# Altium schematic symbol library MyLibrary.SchLib: 261 symbols (part 4 of 4)
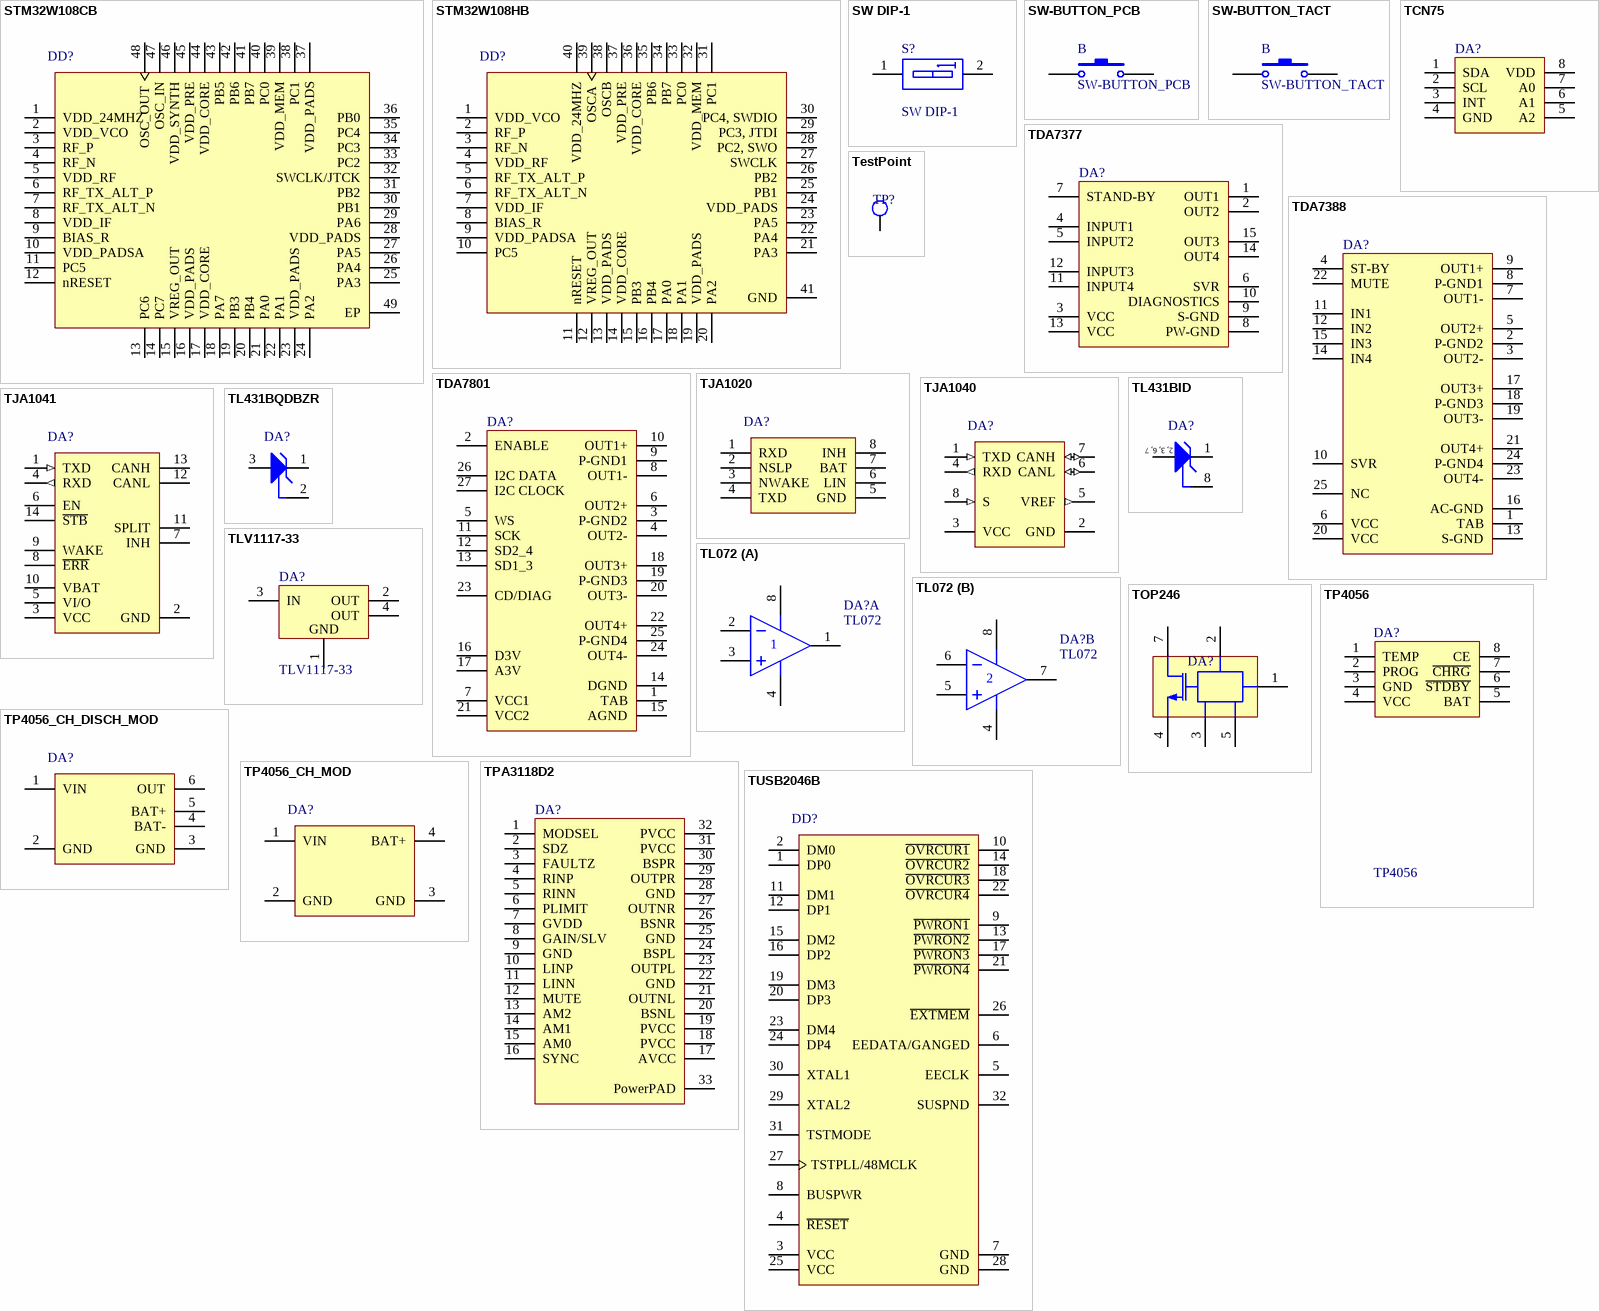
[diagram p12: symbols STM32W108CB to TUSB2046B]

## STM32W108HB
designator DD?
STM32W108HBU61TR
footprint QFPN40_L (QFN, 40-Leads, Body 6.1x6.1mm, Pitch 0.5mm, Thermal Pad 4.6x4.6mm, IPC High Density)
footprint QFPN40_M (QFN, 40-Leads, Body 6.1x6.1mm, Pitch 0.5mm, Thermal Pad 4.6x4.6mm, IPC Low Density)
footprint QFPN40_N (QFN, 40-Leads, Body 6.1x6.1mm, Pitch 0.5mm, Thermal Pad 4.6x4.6mm, IPC Medium Density)
pins: 1 VDD_VCO, 2 RF_P, 3 RF_N, 4 VDD_RF, 5 RF_TX_ALT_P, 6 RF_TX_ALT_N, 7 VDD_IF, 8 BIAS_R, 9 VDD_PADSA, 10 PC5, 11 nRESET, 12 VREG_OUT, 13 VDD_PADS, 14 VDD_CORE, 15 PB3, 16 PB4, 17 PA0, 18 PA1, 19 VDD_PADS, 20 PA2, 21 PA3, 22 PA4, 23 PA5, 24 VDD_PADS, 25 PB1, 26 PB2, 27 SWCLK, 28 PC2, SWO, 29 PC3, JTDI, 30 PC4, SWDIO, 31 PC1, 32 VDD_MEM, 33 PC0, 34 PB7, 35 PB6, 36 VDD_CORE, 37 VDD_PRE, 38 OSCB, 39 OSCA, 40 VDD_24MHZ, 41 GND

## SW DIP-1
designator S?
DIP Switch, 2 Position, SPST; Published: 24-Mar-1999; LatestRevisionDate: 17-Jul-2002; LatestRevisionNote: Re-released for DXP Platform.; PackageReference: DIP-4; Publisher: Altium Limited
simulation model dpsw2 (Spice Subcircuit)
footprint SW DIP2 (Switch; 2 Leads)
pins: 1 A1, 2 A2

## SW-BUTTON_PCB
designator B
PCB Switch, 2 Position; Published: 24-Mar-1999; LatestRevisionDate: 17-Jul-2002; LatestRevisionNote: Re-released for DXP Platform.; PackageReference: SPST-2; Publisher: Altium Limited; PackageDescription: Switch; 2 Leads
footprint SW_BUTTON_PCB (Connector; Header; 4 Position)
pins: 1, 2

## SW-BUTTON_TACT
designator B
DIP Switch, 2 Position; Published: 24-Mar-1999; LatestRevisionDate: 17-Jul-2002; LatestRevisionNote: Re-released for DXP Platform.; PackageReference: SPST-2; Publisher: Altium Limited; PackageDescription: Switch; 2 Leads
footprint SPST-2 SMD (Switch; 2 Leads)
footprint SPST-2 TH (Switch; 2 Leads)
pins: 1, 2

## TCN75
designator DA?
2-WIRE SERIAL TEMPERATURE SENSOR AND THERMAL MONITOR; Published: 15-Apr-2002; LatestRevisionDate: 13-Apr-2006; LatestRevisionNote: IPC-7351 Footprint Added.; DatasheetVersion: Mar-2000; PackageVersion: 1998; PackageReference: 751-05; Publisher: Altium Limited; PackageDescription: 8-Pin Small Outline Integrated Circuit 1.27 mm Pitch; Code_JEDEC: MS-012-AA; Code_IPC: SOIC127P600-8; ComponentLink1Description: Manufacturer Link; ComponentLink1URL: http://www.onsemi.com/site/products/taxonomy/0,4438,503,00.html; ComponentLink2Description: Datasheet; ComponentLink2URL: http://www.onsemi.com/pub/Collateral/MC33275-D.PDF
footprint SOIC-8_N (SOIC, 8-Leads, Body 4.9x3.9mm, Pitch 1.27mm, IPC Medium Density)
pins: 1 SDA (power), 2 SCL (power), 3 INT (power), 4 GND (power), 5 A2 (power), 6 A1, 7 A0, 8 VDD (power)

## TDA7377
designator DA?
2x30W DUAL/QUAD POWER AMPLIFIER FOR CAR RADIO; Published: 24-Aug-2001; LatestRevisionDate: 17-Jul-2002; LatestRevisionNote: Re-released for DXP Platform.; DatasheetVersion: Feb-1999; PackageReference: TO92; Publisher: Altium Limited; PackageDescription: TO, Flat Index; 3 In-Line, Axial Leads; Body Dia. 4.8mm; Leads 0.51 x 0.51 mm (max); ComponentLink1Description: Manufacturer Link; ComponentLink1URL: http://www.st.com/
footprint TDA7388 (DIP; 8 Leads; Row Spacing 7.62 mm; Pitch 2.54 mm)
pins: 1 OUT1, 2 OUT2, 3 VCC, 4 INPUT1, 5 INPUT2, 6 SVR, 7 STAND-BY, 8 PW-GND, 9 S-GND, 10 DIAGNOSTICS, 11 INPUT4, 12 INPUT3, 13 VCC, 14 OUT4, 15 OUT3

## TDA7388
designator DA?
4x45 W quad bridge car radio amplifier; Published: 24-Aug-2001; LatestRevisionDate: 17-Jul-2002; LatestRevisionNote: Re-released for DXP Platform.; DatasheetVersion: Feb-1999; PackageReference: TO92; Publisher: Altium Limited; PackageDescription: TO, Flat Index; 3 In-Line, Axial Leads; Body Dia. 4.8mm; Leads 0.51 x 0.51 mm (max); ComponentLink1Description: Manufacturer Link; ComponentLink1URL: http://www.st.com/
footprint TDA7388 (DIP; 8 Leads; Row Spacing 7.62 mm; Pitch 2.54 mm)
pins: 1 TAB, 2 P-GND2, 3 OUT2-, 4 ST-BY, 5 OUT2+, 6 VCC, 7 OUT1-, 8 P-GND1, 9 OUT1+, 10 SVR, 11 IN1, 12 IN2, 13 S-GND, 14 IN4, 15 IN3, 16 AC-GND, 17 OUT3+, 18 P-GND3, 19 OUT3-, 20 VCC, 21 OUT4+, 22 MUTE, 23 OUT4-, 24 P-GND4, 25 NC

## TDA7801
designator DA?
4x72W Digital input quad power amplifier with built-in diagnostics features; Published: 24-Aug-2001; LatestRevisionDate: 17-Jul-2002; LatestRevisionNote: Re-released for DXP Platform.; DatasheetVersion: Feb-1999; PackageReference: TO92; Publisher: Altium Limited; PackageDescription: TO, Flat Index; 3 In-Line, Axial Leads; Body Dia. 4.8mm; Leads 0.51 x 0.51 mm (max); ComponentLink1Description: Manufacturer Link; ComponentLink1URL: http://www.st.com/
footprint TDA7801 (DIP; 8 Leads; Row Spacing 7.62 mm; Pitch 2.54 mm)
pins: 1 TAB, 2 ENABLE, 3 P-GND2, 4 OUT2-, 5 WS, 6 OUT2+, 7 VCC1, 8 OUT1-, 9 P-GND1, 10 OUT1+, 11 SCK, 12 SD2_4, 13 SD1_3, 14 DGND, 15 AGND, 16 D3V, 17 A3V, 18 OUT3+, 19 P-GND3, 20 OUT3-, 21 VCC2, 22 OUT4+, 23 CD/DIAG, 24 OUT4-, 25 P-GND4, 26 I2C DATA, 27 I2C CLOCK

## TestPoint
designator TP?, comment TP  (value not drawn)
Test Point
footprint TEST_POINT_1MM (Connector; Header; 4 Position)
pins: 1

## TJA1020
designator DA?
LIN transceiver
footprint SOIC-8_L (SOIC, 8-Leads, Body 4.9x3.9mm, Pitch 1.27mm, IPC High Density)
footprint SOIC-8_M (SOIC, 8-Leads, Body 4.9x3.9mm, Pitch 1.27mm, IPC Low Density)
footprint SOIC-8_N (SOIC, 8-Leads, Body 4.9x3.9mm, Pitch 1.27mm, IPC Medium Density)
pins: 1 RXD, 2 NSLP, 3 NWAKE, 4 TXD, 5 GND, 6 LIN, 7 BAT, 8 INH

## TJA1040
designator DA?
CAN high speed transceiver
footprint SOIC-8_L (SOIC, 8-Leads, Body 4.9x3.9mm, Pitch 1.27mm, IPC High Density)
footprint SOIC-8_M (SOIC, 8-Leads, Body 4.9x3.9mm, Pitch 1.27mm, IPC Low Density)
footprint SOIC-8_N (SOIC, 8-Leads, Body 4.9x3.9mm, Pitch 1.27mm, IPC Medium Density)
pins: 1 TXD (in), 2 GND (power), 3 VCC (power), 4 RXD (out), 5 VREF (out), 6 CANL (io), 7 CANH (io), 8 S (in)

## TJA1041
designator DA?
CAN high speed transceiver
footprint SO-14_L (SOIC, 14-Leads, Body 8.7x3.9mm, Pitch 1.27mm, IPC High Density)
footprint SO-14_M (SOIC, 14-Leads, Body 8.7x3.9mm, Pitch 1.27mm, IPC Low Density)
footprint SO-14_N (SOIC, 14-Leads, Body 8.7x3.9mm, Pitch 1.27mm, IPC Medium Density)
pins: 1 TXD (in), 2 GND (power), 3 VCC (power), 4 RXD (out), 5 VI/O, 6 EN, 7 INH, 8 ~{ERR}, 9 WAKE, 10 VBAT, 11 SPLIT, 12 CANL, 13 CANH, 14 ~{STB}

## TL072
designator DA?
Dual Operational Amplifier; Published: 15-Apr-2002; LatestRevisionDate: 13-Apr-2006; LatestRevisionNote: IPC-7351 Footprint Added.; DatasheetVersion: Aug-1988; PackageVersion: Jan-1998; PackageReference: D008; Publisher: Altium Limited; PackageDescription: 8-Pin Small Outline Integrated Circuit 1.27 mm Pitch; Code_IPC: SOIC127P600-8; ComponentLink1Description: Manufacturer Link; ComponentLink1URL: http://www.ti.com/; ComponentLink2Description: Datasheet; ComponentLink2URL: http://www-s.ti.com/sc/ds/lm358.pdf
footprint SOIC-8_L (SOIC, 8-Leads, Body 4.9x3.9mm, Pitch 1.27mm, IPC High Density)
footprint SOIC-8_M (SOIC, 8-Leads, Body 4.9x3.9mm, Pitch 1.27mm, IPC Low Density)
footprint DIP-8 (DIP; 8 Leads; Row Spacing 7.62 mm; Pitch 2.54 mm)
pins on every part: 4 V-, 8 V+
part A pins: 1 OUT, 2 IN-, 3 IN+
part B pins: 5 IN+, 6 IN-, 7 OUT

## TL431BID
designator DA?
Precision Programmable Reference
footprint SOIC-8_L (SOIC, 8-Leads, Body 4.9x3.9mm, Pitch 1.27mm, IPC High Density)
footprint SOIC-8_M (SOIC, 8-Leads, Body 4.9x3.9mm, Pitch 1.27mm, IPC Low Density)
footprint SOIC-8_N (SOIC, 8-Leads, Body 4.9x3.9mm, Pitch 1.27mm, IPC Medium Density)
pins: 1 CATHODE, 2 ANODE, 3 ANODE, 6 ANODE, 7 ANODE, 8 REF
text: 2, 3, 6, 7

## TL431BQDBZR
designator DA?
ION
footprint SOT-23_M (SOT23, 3-Leads, Body 2.9x1.3mm, Pitch 0.95mm, Lead Span 2.3mm - Reverse Pinning, IPC Low Density)
footprint SOT-23_N (SOT23, 3-Leads, Body 2.9x1.3mm, Pitch 0.95mm, Lead Span 2.3mm - Reverse Pinning, IPC Medium Density)
pins: 1 CATHODE, 2 REF, 3 ANODE

## TLV1117-33
designator DA?
Vin=15V Low drop fixed and adjustable positive voltage regulators; Published: 24-Aug-2001; LatestRevisionDate: 17-Jul-2002; LatestRevisionNote: Re-released for DXP Platform.; DatasheetVersion: Feb-1999; PackageReference: TO92; Publisher: Altium Limited; PackageDescription: TO, Flat Index; 3 In-Line, Axial Leads; Body Dia. 4.8mm; Leads 0.51 x 0.51 mm (max); ComponentLink1Description: Manufacturer Link; ComponentLink1URL: http://www.st.com/
footprint SOT-223_L (SOT223, 4-Leads, Body 6.5x3.5mm, Pitch 2.3mm, Lead Span 7mm, IPC High Density)
pins: 1 GND (power), 2 OUT (power), 3 IN (power), 4 OUT (power)

## TOP246
designator DA?
IntegratedOff-line Switcher; Published: 8-Jun-2000; LatestRevisionDate: 17-Jul-2002; LatestRevisionNote: Re-released for DXP Platform.; PackageVersion: 1995/1996; PackageReference: E3; Publisher: Altium Limited; PackageDescription: TO, Flat Index; 3 In-Line, Axial Leads; Body Dia. 4.6mm; Lead Dia. 0.5 mm (max)
footprint TO-220-7 (TO, Thru-Hole, Vertical, Heatsink Mounted; 3 In-Line Leads; Pitch 2.54 mm)
pins: 1 G, 2 D, 3 D, 4 D, 5 D, 7 S

## TP4056
designator DA?
1A Standalone Linear Li-lon Battery Charger with Thermal   Regulation; Published: 16-Jan-2001; LatestRevisionDate: 13-Apr-2006; LatestRevisionNote: IPC-7351 Footprint Added.; DatasheetVersion: Mar-1999; PackageReference: NSO16; Publisher: Altium Limited; PackageDescription: 16-Pin Small Outline Integrated Circuit 1.27 mm Pitch; Code_JEDEC: MS-012-AC; Code_IPC: SOIC127P600-16; ComponentLink1Description: Manufacturer Link; ComponentLink1URL: http://www.maxim-ic.com/; ComponentLink2Description: Datasheet; ComponentLink2URL: http://pdfserv.maxim-ic.com/en/ds/MAX3222-MAX3241.pdf
footprint SOIC-8_N (SOIC, 8-Leads, Body 4.9x3.9mm, Pitch 1.27mm, IPC Medium Density)
pins: 1 TEMP, 2 PROG (power), 3 GND, 4 VCC, 5 BAT, 6 ~{STDBY} (power), 7 ~{CHRG}, 8 CE

## TP4056_CH_DISCH_MOD
designator DA?
1A Li-po charger module with discharge protection.
footprint TP4056_CH_DISCH_MOD
pins: 1 VIN (power), 2 GND (power), 3 GND (power), 4 BAT- (power), 5 BAT+ (power), 6 OUT (power)

## TP4056_CH_MOD
designator DA?
1A Li-po charger module
footprint TP4056_CH_MOD
pins: 1 VIN (power), 2 GND (power), 3 GND (power), 4 BAT+ (power)

## TPA3118D2
designator DA?
4x45 W quad bridge car radio amplifier; Published: 24-Aug-2001; LatestRevisionDate: 17-Jul-2002; LatestRevisionNote: Re-released for DXP Platform.; DatasheetVersion: Feb-1999; PackageReference: TO92; Publisher: Altium Limited; PackageDescription: TO, Flat Index; 3 In-Line, Axial Leads; Body Dia. 4.8mm; Leads 0.51 x 0.51 mm (max); ComponentLink1Description: Manufacturer Link; ComponentLink1URL: http://www.st.com/
footprint TSSOP-32_TPA3118D2 (DAD Package  32-Pin HTSSOP With PowerPAD Up  TPA3116D2 Only, Top View)
pins: 1 MODSEL, 2 SDZ, 3 FAULTZ, 4 RINP, 5 RINN, 6 PLIMIT, 7 GVDD, 8 GAIN/SLV, 9 GND, 10 LINP, 11 LINN, 12 MUTE, 13 AM2, 14 AM1, 15 AM0, 16 SYNC, 17 AVCC, 18 PVCC, 19 PVCC, 20 BSNL, 21 OUTNL, 22 GND, 23 OUTPL, 24 BSPL, 25 GND, 26 BSNR, 27 OUTNR, 28 GND, 29 OUTPR, 30 BSPR, 31 PVCC, 32 PVCC, 33 PowerPAD

## TUSB2046B
designator DD?
4-Port Hub for the Universal Serial Bus With Optional  Serial EEPROM Interface
footprint LQFP32_N (QFP, 32-Leads, Body 7x7mm, Pitch 0.8mm, IPC Medium Density)
pins: 1 DP0 "Root port USB differential data plus. DP0 paired with DM0 constitutes the upstream USB port", 2 DM0 "Root port USB differential data minus. DM0 paired with DP0 constitutes the upstream USB port", 3 VCC "3.3-V supply voltage", 4 ~{RESET} "R\E\S\E\T\ is an active low TTL input with hysteresis and must be asserted at power up. When R\E\S\E\T\ is asserted, all logic is initialized. Generally, a reset with a pulse width between 100 us and 1 ms is recommended (See Datasheet)", 5 EECLK "EEPROM serial clock. When E\X\T\M\E\M\ is high, the EEPROM interface is disabled. The EECLK terminal is disabled and must be left floating (unconnected). When E\X\T\M\E\M\ is low, EECLK acts as a 3-state serial clock output (See Datasheet)", 6 EEDATA/GANGED "EEPROM serial data/power-management mode indicator. When E\X\T\M\E\M\ is high, EEDATA/GANGED selects between ganged or per-port power overcurrent detection for the downstream ports. When E\X\T\M\E\M\ is low, EEDATA/GANGED (See Datasheet)", 7 GND "GND terminals must be tied to ground for proper operation.", 8 BUSPWR "Power source indicator. BUSPWR is an active-high input that indicates whether the downstream ports source their power from the USB cable or a local power supply. For the bus-power mode,this terminal must be pulled to 3.3 V, (See Datasheet)", 9 ~{PWRON1} "Power-on/-off control signals. P\W\R\O\N\1\-P\W\R\O\N\4\ are active low, push-pull outputs. Push-pull outputs eliminate the pullup resistors which open-drain outputs require. However, the externalpower switches that connect (See Datasheet)", 10 ~{OVRCUR1} "Overcurrent input. O\V\R\C\U\R\1\-O\V\R\C\U\R\4 \are active low. For per-port overcurrent detection, one overcurrent input is available for each of the four downstream ports. In the ganged mode, any O\V\R\C\U\R\ input may be (See Datasheet)", 11 DM1 "USB differential data minus. DM1-DM4 paired with DP1-DP4 support up to four downstream USB ports.", 12 DP1 "USB differential data plus. DP1-DP4 paired with DM1-DM4 support up to four downstream USB ports.", 13 ~{PWRON2} "Power-on/-off control signals. P\W\R\O\N\1\-P\W\R\O\N\4\ are active low, push-pull outputs. Push-pull outputs eliminate the pullup resistors which open-drain outputs require. However, the externalpower switches that connect (See Datasheet)", 14 ~{OVRCUR2} "Overcurrent input. O\V\R\C\U\R\1\-O\V\R\C\U\R\4 \are active low. For per-port overcurrent detection, one overcurrent input is available for each of the four downstream ports. In the ganged mode, any O\V\R\C\U\R\ input may be (See Datasheet)", 15 DM2 "USB differential data minus. DM1-DM4 paired with DP1-DP4 support up to four downstream USB ports.", 16 DP2 "USB differential data plus. DP1-DP4 paired with DM1-DM4 support up to four downstream USB ports.", 17 ~{PWRON3} "Power-on/-off control signals. P\W\R\O\N\1\-P\W\R\O\N\4\ are active low, push-pull outputs. Push-pull outputs eliminate the pullup resistors which open-drain outputs require. However, the externalpower switches that connect (See Datasheet)", 18 ~{OVRCUR3} "Overcurrent input. O\V\R\C\U\R\1\-O\V\R\C\U\R\4 \are active low. For per-port overcurrent detection, one overcurrent input is available for each of the four downstream ports. In the ganged mode, any O\V\R\C\U\R\ input may be (See Datasheet)", 19 DM3 "USB differential data minus. DM1-DM4 paired with DP1-DP4 support up to four downstream USB ports.", 20 DP3 "USB differential data plus. DP1-DP4 paired with DM1-DM4 support up to four downstream USB ports.", 21 ~{PWRON4} "Power-on/-off control signals. P\W\R\O\N\1\-P\W\R\O\N\4\ are active low, push-pull outputs. Push-pull outputs eliminate the pullup resistors which open-drain outputs require. However, the externalpower switches that connect (See Datasheet)", 22 ~{OVRCUR4} "Overcurrent input. O\V\R\C\U\R\1\-O\V\R\C\U\R\4 \are active low. For per-port overcurrent detection, one overcurrent input is available for each of the four downstream ports. In the ganged mode, any O\V\R\C\U\R\ input may be (See Datasheet)", 23 DM4 "USB differential data minus. DM1-DM4 paired with DP1-DP4 support up to four downstream USB ports.", 24 DP4 "USB differential data plus. DP1-DP4 paired with DM1-DM4 support up to four downstream USB ports.", 25 VCC "3.3-V supply voltage", 26 ~{EXTMEM} "When E\X\T\M\E\M\ is high, the serial EEPROM interface of the device is disabled. When E\X\T\M\E\M\ is low, terminals 5 and 6 are configured as the clock and data terminals of the serial EEPROM interface, respectively.", 27 TSTPLL/48MCLK "Test/48-MHz clock input. TSTPLL/48MCLK is used as a test terminal during production testing. This terminal must be tied to ground for normal 6-MHz operation. If 48-MHz input clock is desired, a 48-MHz clock source (no (See Datasheet)", 28 GND "GND terminals must be tied to ground for proper operation.", 29 XTAL2 "Crystal 2. XTAL2 is a 6-MHz crystal output. This terminal must be left open when using an oscillator.", 30 XTAL1 "Crystal 1. XTAL1 is a 6-MHz crystal input with 50% duty cycle. An internal PLL generates the 48-MHz and 12-MHz clocks used internally by the ASIC logic.", 31 TSTMODE "Test/mode terminal. TSTMODE is used as a test terminal during production testing. This terminal must be tied to ground or 3.3-V VCC for normal 6-MHz or 48-MHz operation, respectively.", 32 SUSPND "Suspend status. SUSPND is an active high output available for external logic power-down operations. During the suspend mode, SUSPND is high. SUSPND is low for normal operation."

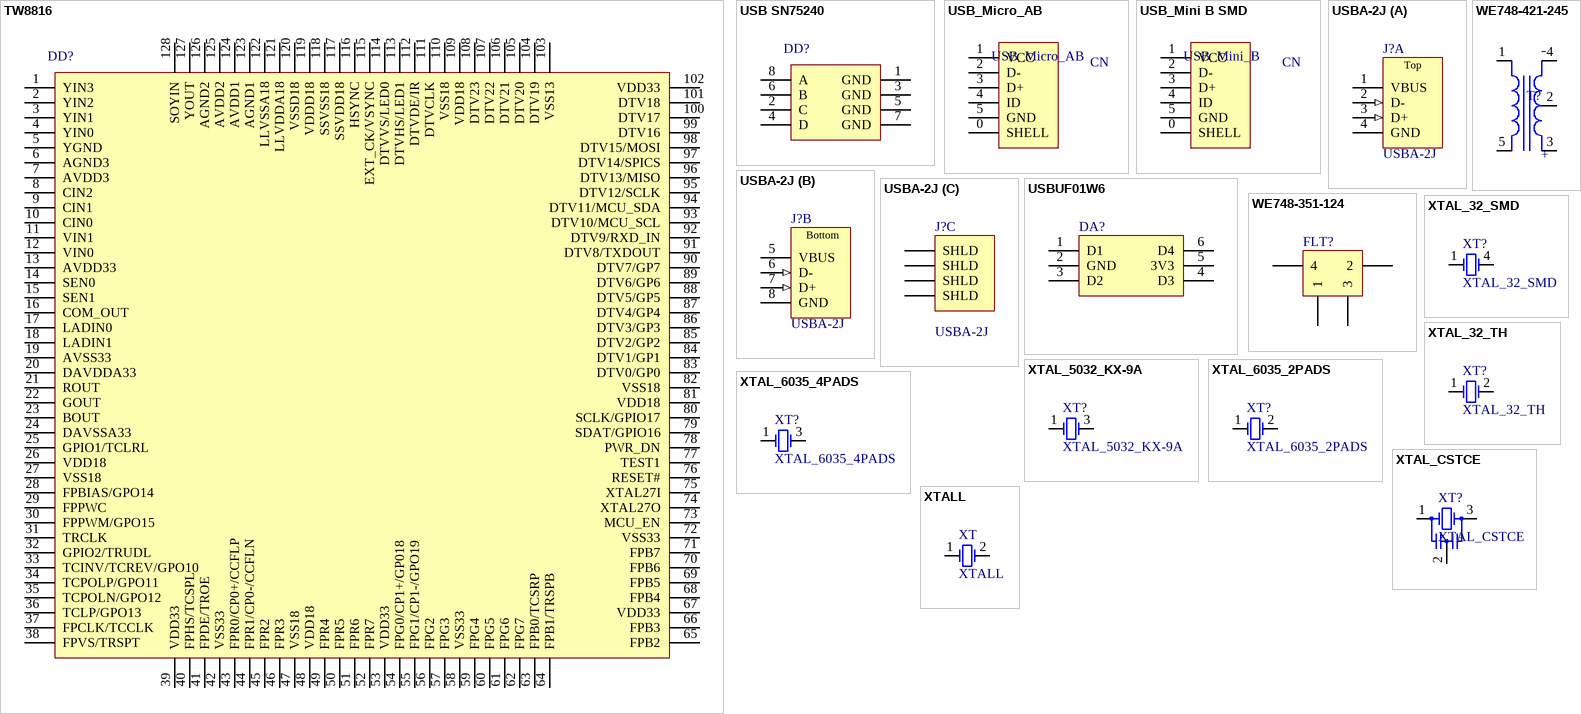
[diagram p9: symbols TW8816 to XTALL]

## TW8816
designator DD?
LCD Flat Panel Processor with built-in MCU,   NTSC/PAL/SECAM Decoder, T-CON and Analog RGB Support
footprint LQFP128_L (Thin QFP, 128-Leads, Body 20x14 mm, Pitch 0.5mm, IPC High Density)
footprint LQFP128_M (Thin QFP, 128-Leads, Body 20x14 mm, Pitch 0.5mm, IPC Low Density)
footprint LQFP128_N (Thin QFP, 128-Leads, Body 20x14 mm, Pitch 0.5mm, IPC Medium Density)
pins: 1 YIN3, 2 YIN2, 3 YIN1, 4 YIN0, 5 YGND, 6 AGND3, 7 AVDD3, 8 CIN2, 9 CIN1, 10 CIN0, 11 VIN1, 12 VIN0, 13 AVDD33, 14 SEN0, 15 SEN1, 16 COM_OUT, 17 LADIN0, 18 LADIN1, 19 AVSS33, 20 DAVDDA33, 21 ROUT, 22 GOUT, 23 BOUT, 24 DAVSSA33, 25 GPIO1/TCLRL, 26 VDD18, 27 VSS18, 28 FPBIAS/GPO14, 29 FPPWC, 30 FPPWM/GPO15, 31 TRCLK, 32 GPIO2/TRUDL, 33 TCINV/TCREV/GPO10, 34 TCPOLP/GPO11, 35 TCPOLN/GPO12, 36 TCLP/GPO13, 37 FPCLK/TCCLK, 38 FPVS/TRSPT, 39 VDD33, 40 FPHS/TCSPL, 41 FPDE/TROE, 42 VSS33, 43 FPR0/CP0+/CCFLP, 44 FPR1/CP0-/CCFLN, 45 FPR2, 46 FPR3, 47 VSS18, 48 VDD18, 49 FPR4, 50 FPR5, 51 FPR6, 52 FPR7, 53 VDD33, 54 FPG0/CP1+/GP018, 55 FPG1/CP1-/GPO19, 56 FPG2, 57 FPG3, 58 VSS33, 59 FPG4, 60 FPG5, 61 FPG6, 62 FPG7, 63 FPB0/TCSRP, 64 FPB1/TRSPB, 65 FPB2, 66 FPB3, 67 VDD33, 68 FPB4, 69 FPB5, 70 FPB6, 71 FPB7, 72 VSS33, 73 MCU_EN, 74 XTAL27O, 75 XTAL27I, 76 RESET#, 77 TEST1, 78 PWR_DN, 79 SDAT/GPIO16, 80 SCLK/GPIO17, 81 VDD18, 82 VSS18, 83 DTV0/GP0, 84 DTV1/GP1, 85 DTV2/GP2, 86 DTV3/GP3, 87 DTV4/GP4, 88 DTV5/GP5, 89 DTV6/GP6, 90 DTV7/GP7, 91 DTV8/TXDOUT, 92 DTV9/RXD_IN, 93 DTV10/MCU_SCL, 94 DTV11/MCU_SDA, 95 DTV12/SCLK, 96 DTV13/MISO, 97 DTV14/SPICS, 98 DTV15/MOSI, 99 DTV16, 100 DTV17, 101 DTV18, 102 VDD33, 103 VSS13, 104 DTV19, 105 DTV20, 106 DTV21, 107 DTV22, 108 DTV23, 109 VDD18, 110 VSS18, 111 DTVCLK, 112 DTVDE/IR, 113 DTVHS/LED1, 114 DTVVS/LED0, 115 EXT_CK/VSYNC, 116 HSYNC, 117 SSVDD18, 118 SSVSS18, 119 VDDD18, 120 VSSD18, 121 LLVDDA18, 122 LLVSSA18, 123 AGND1, 124 AVDD1, 125 AVDD2, 126 AGND2, 127 YOUT, 128 SOYIN

## USB SN75240
designator DD?
USB Port Transient Suppressors
footprint TSSOP-8 (Shrink Small Outline, Plastic, Thin; 8 Leads; Body Width 4.4 mm; Pitch 0.65 mm)
pins: 1 GND (power), 2 C, 3 GND (power), 4 D, 5 GND (power), 6 B, 7 GND (power), 8 A

## USB_Micro_AB
designator CN
UISB Micro connector; PCB_Layout: Complies with Manufacturer's Recommendation.; Published: 21-Sep-2007; DatasheetVersion: revA, May-2004; PackageVersion: May-2004; PackageReference: 481900001; Publisher: Altium Limited; PackageDescription: USB Mini-B, Sinking Type, SM; 5 Position; Right Angle, Body 11.45 x 11.8 x 3.9 mm (LxWxH); ComponentLink1Description: Manufacturer Link; ComponentLink1URL: http://www.molex.com/; ComponentLink2Description: Datasheet; ComponentLink2URL: http://www.molex.com/cmc_upload/0/000/895/958/SD-48190-001RevA.pdf
footprint USB Micro AB SMD (Connector; USB2.0, Type AB; 5 Position; Right Angle)
pins: 0 SHELL, 1 VCC, 2 D-, 3 D+, 4 ID, 5 GND

## USB_Mini B SMD
designator CN, comment USB_Mini_B
USB On-The-Go (OTG) Mini-B Receptacle, Right Angle, SMT, 0.80mm (.031") Pitch, Solder Tabs with Back Cover, Recessed Type; PCB_Layout: Complies with Manufacturer's Recommendation.; Published: 21-Sep-2007; DatasheetVersion: revA, May-2004; PackageVersion: May-2004; PackageReference: 481900001; Publisher: Altium Limited; PackageDescription: USB Mini-B, Sinking Type, SM; 5 Position; Right Angle, Body 11.45 x 11.8 x 3.9 mm (LxWxH); ComponentLink1Description: Manufacturer Link; ComponentLink1URL: http://www.molex.com/; ComponentLink2Description: Datasheet; ComponentLink2URL: http://www.molex.com/cmc_upload/0/000/895/958/SD-48190-001RevA.pdf
footprint USB Mini B SMD (Connector; USB2.0, Type B, SM; 5 Position; Right Angle)
pins: 0 SHELL, 1 VCC, 2 D-, 3 D+, 4 ID, 5 GND

## USBA-2J
designator J?
Косм. USBA-2G USB разъем тип A   Разъем USB (м) на плату, двойной, тип А , тип 1; ContactMaterial: Copper Alloy; ContactPlating: Gold over Nickel; TerminationLength: 2.84mm [0.112in.]; PCB_Layout: Complies with manufacturer's recommendation.; DrillSize: Corresponds to nominal value.; PanelGround: Without; Published: 15-Jul-2004; DatasheetDocument: 08-Mar-2001; PackageDocument: 08-Mar-2001; PackageReference: 440446; Publisher: Altium Limited; HousingMaterial: Thermoplastic; ComponentLink1Description: Manufacturer Link; ComponentLink1URL: http://www.tycoelectronics.com/; ComponentLink2Description: Packaging Specification; ComponentLink2URL: http://ecommas.tycoelectronics.com/commerce/DocumentDelivery/DDEController?Action=showdoc&DocId=Customer+Drawing%7F440446%7FO%7Ftif%7FEnglish%7FC_440446_O.tif
signal-integrity model USB1.1
footprint USBA-2J (Connector; USB1.1, Type A, Thru-Hole; 4x4 Position; Right Angle)
part A pins: 1 VBUS (power) "Power", 2 D- (in) "-DATA", 3 D+ (in) "+DATA", 4 GND (power) "Ground"
part B pins: 5 VBUS (power) "Power", 6 D- (in) "-DATA", 7 D+ (in) "+DATA", 8 GND (power) "Ground"
part C pins: 9 SHLD "Shield", 10 SHLD "Shield", 11 SHLD "Shield", 12 SHLD "Shield"
part A text: Top
part B text: Bottom

## USBUF01W6
designator DA?
EMI filter and line termination for USB downstream ports; Published: 24-Aug-2001; LatestRevisionDate: 17-Jul-2002; LatestRevisionNote: Re-released for DXP Platform.; DatasheetVersion: Feb-1999; PackageReference: TO92; Publisher: Altium Limited; PackageDescription: TO, Flat Index; 3 In-Line, Axial Leads; Body Dia. 4.8mm; Leads 0.51 x 0.51 mm (max); ComponentLink1Description: Manufacturer Link; ComponentLink1URL: http://www.st.com/
footprint SOT323-6_L (SOT323, 3-Leads, Body 2.0x1.3mm, Pitch 0.65mm, Lead Span 2.1mm, IPC High Density)
footprint SOT323-6_M (SOT323, 3-Leads, Body 2.0x1.3mm, Pitch 0.65mm, Lead Span 2.1mm, IPC Low Density)
footprint SOT323-6_N (SOT323, 3-Leads, Body 2.0x1.3mm, Pitch 0.65mm, Lead Span 2.1mm, IPC Medium Density)
pins: 1 D1 (power), 2 GND (power), 3 D2 (power), 4 D3, 5 3V3 (power), 6 D4 (power)

## WE748-351-124
designator FLT?
Bandpass filter; LatestRevisionDate: 17-Jul-2002; LatestRevisionNote: Re-released for DXP Platform.; Publisher: Altium Limited
footprint WE748-351-124 (SOT-89; Body 4.6 x 4.25 mm, inc. leads (LxW max))
pins: 1, 2, 3, 4

## WE748-421-245
designator T?
SMD-Balun, 50to100; LatestRevisionDate: 17-Jul-2002; LatestRevisionNote: Re-released for DXP Platform.; Publisher: Altium Limited
footprint WE748-421-245 (SOT-89; Body 4.6 x 4.25 mm, inc. leads (LxW max))
pins: 1 Pri+, 2 SecCT, 3 Sec+, 4 Sec-, 5 Pri-
text: -; +

## XTAL_32_SMD
designator XT?
Crystal Oscillator; Published: 8-Jun-2000; LatestRevisionDate: 17-Jul-2002; LatestRevisionNote: Re-released for DXP Platform.; PackageReference: R38; Publisher: Altium Limited; PackageDescription: Crystal, Thru-Hole; 2 Leads; Body 3.1 x 8.2 mm (Dia.xH)
footprint XTALL 32 SMD (Crystal, SM; 4 Leads; Body 8 x 3.8 x 2.5 mm (LxWxH))
pins: 1 OSC1, 4 OSC2

## XTAL_32_TH
designator XT?
Crystal Oscillator; Published: 8-Jun-2000; LatestRevisionDate: 17-Jul-2002; LatestRevisionNote: Re-released for DXP Platform.; PackageReference: R38; Publisher: Altium Limited; PackageDescription: Crystal, Thru-Hole; 2 Leads; Body 3.1 x 8.2 mm (Dia.xH)
footprint XTALL 32 DIP HOR (Crystal, SM; 4 Leads; Body 8 x 3.8 x 2.5 mm (LxWxH))
footprint XTALL 32 DIP VERT (Crystal, SM; 4 Leads; Body 8 x 3.8 x 2.5 mm (LxWxH))
pins: 1 OSC1, 2 OSC2

## XTAL_5032_KX-9A
designator XT?
Crystal Oscillator, KX-9A, 27MHz, 4 pads; Published: 8-Jun-2000; LatestRevisionDate: 17-Jul-2002; LatestRevisionNote: Re-released for DXP Platform.; PackageReference: R38; Publisher: Altium Limited; PackageDescription: Crystal, Thru-Hole; 2 Leads; Body 3.1 x 8.2 mm (Dia.xH)
footprint XTALL 5032 KX-9A 8.0 (Crystal, SM; 4 Leads; Body 8 x 3.8 x 2.5 mm (LxWxH))
footprint XTALL 5032 KX-9A 25.0 (Crystal, SM; 4 Leads; Body 8 x 3.8 x 2.5 mm (LxWxH))
footprint XTALL 5032 KX-9A 27.0 (Crystal, SM; 4 Leads; Body 8 x 3.8 x 2.5 mm (LxWxH))
pins: 1 OSC1, 3 OSC2

## XTAL_6035_2PADS
designator XT?
Crystal Oscillator, Newxtal manufact. SMD 6035, 27MHz, 2 pads; Published: 8-Jun-2000; LatestRevisionDate: 17-Jul-2002; LatestRevisionNote: Re-released for DXP Platform.; PackageReference: R38; Publisher: Altium Limited; PackageDescription: Crystal, Thru-Hole; 2 Leads; Body 3.1 x 8.2 mm (Dia.xH)
footprint XTALL 6035 2Pads 27.0 (Crystal, SM; 4 Leads; Body 8 x 3.8 x 2.5 mm (LxWxH))
pins: 1 OSC1, 2 OSC2

## XTAL_6035_4PADS
designator XT?
Crystal Oscillator, NX6035SA, 8MHz, 4 pads; Published: 8-Jun-2000; LatestRevisionDate: 17-Jul-2002; LatestRevisionNote: Re-released for DXP Platform.; PackageReference: R38; Publisher: Altium Limited; PackageDescription: Crystal, Thru-Hole; 2 Leads; Body 3.1 x 8.2 mm (Dia.xH)
footprint XTALL 6035 4Pads 27.0 (Crystal, SM; 4 Leads; Body 8 x 3.8 x 2.5 mm (LxWxH))
pins: 1 OSC1, 3 OSC2

## XTAL_CSTCE
designator XT?
Crystal Oscillator; Published: 8-Jun-2000; LatestRevisionDate: 17-Jul-2002; LatestRevisionNote: Re-released for DXP Platform.; PackageReference: R38; Publisher: Altium Limited; PackageDescription: Crystal, Thru-Hole; 2 Leads; Body 3.1 x 8.2 mm (Dia.xH)
footprint XTALL CSTCE 8.0 (Crystal, SM; 4 Leads; Body 8 x 3.8 x 2.5 mm (LxWxH))
pins: 1 OSC1, 2 OSC2, 3 OSC2

## XTALL
designator XT
Crystal Oscillator; Published: 8-Jun-2000; LatestRevisionDate: 17-Jul-2002; LatestRevisionNote: Re-released for DXP Platform.; PackageReference: R38; Publisher: Altium Limited; PackageDescription: Crystal, Thru-Hole; 2 Leads; Body 3.1 x 8.2 mm (Dia.xH)
footprint XTALL_DIP_8.0
footprint XTALL_SMD-TH_8.0 (Quartz Crystal, SM; Body 13.4 (inc. leads) x 4.9 mm (LxW max))
footprint XTALL_SMD_8.0 (Quartz Crystal, SM; Body 13.4 (inc. leads) x 4.9 mm (LxW max))
pins: 1 OSC1, 2 OSC2